# Altium footprint library 1.PcbLib: 34 footprints (part 1 of 3)
Each footprint in its own frame and in the unit in brackets; x right, y up, seen from the top. Pads: shape width x height; smd on the part's side, far side on the other; paste and mask are expansions set on the pad; w line width, h text height; cw(c..) or ccw(c..) is an arc to the next point about the centre after c.
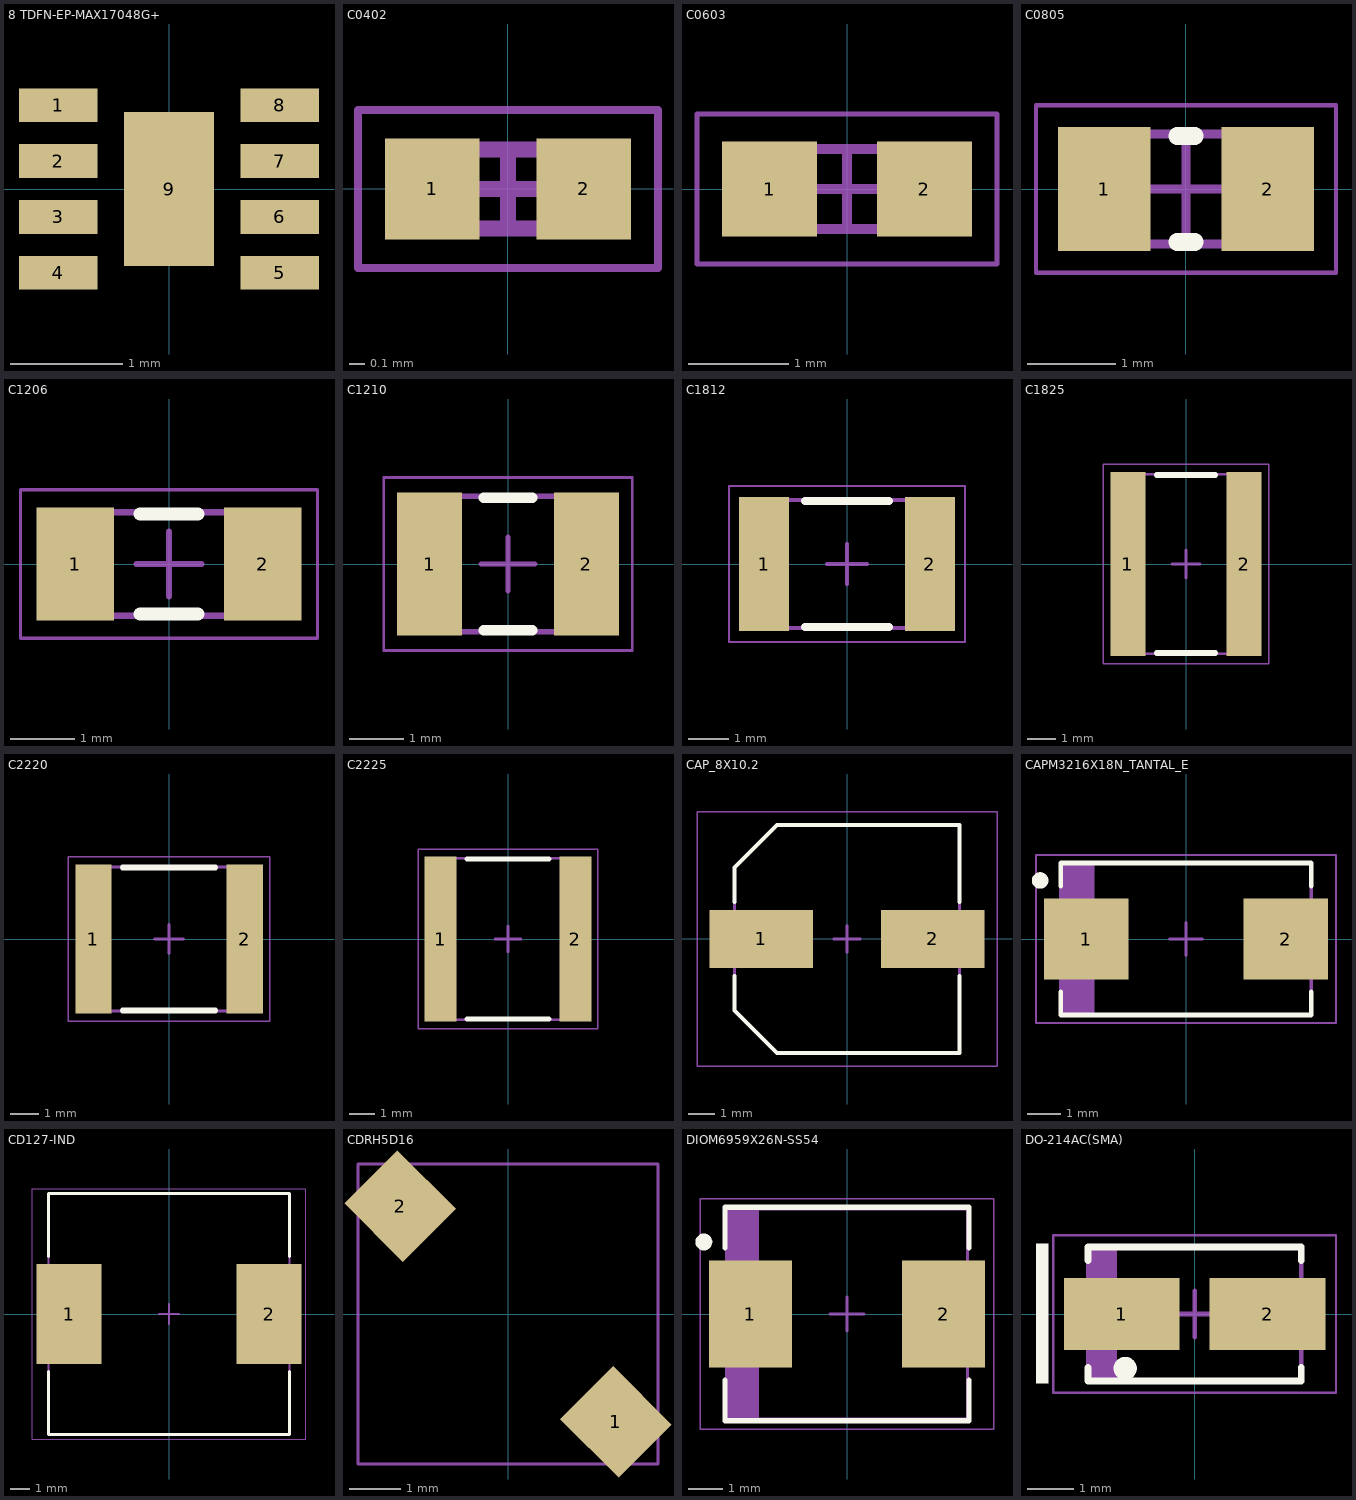
[diagram p0: the footprints below, top view; thin cyan lines are the x and y axes]

## 8 TDFN-EP-MAX17048G+ [mm]
pads (9):
  rect 0.7x0.3 smd: 1(-0.99,0.75) 2(-0.99,0.25) 3(-0.99,-0.25) 4(-0.99,-0.75) 5(0.99,-0.75) 6(0.99,-0.25) 7(0.99,0.25) 8(0.99,0.75)
  rect 0.8x1.38 smd: 9(0,0)

## C0402 [mm] "Chip Capacitor, 2-Leads, Body 1,00x0,50mm, IPC Medium Density"
height 0.55
pads (2):
  rect 0.6x0.64 smd: 1(-0.48,0) 2(0.48,0)
Mechanical 13:
  lines w0.1: -0.5,-0.25 -0.5,0.25 0.5,0.25 0.5,-0.25 -0.5,-0.25
Mechanical 15:
  lines w0.05: -0.95,-0.5 -0.95,0.5 0.95,0.5 0.95,-0.5 -0.95,-0.5
  lines w0.1: -0.25,0 0.25,0 ; 0,-0.25 0,0.25
3D body "C_0402.step": height 0.48, standoff -0.02, extent -0.5,-0.25 0.5,0.25

## C0603 [mm] "Chip Capacitor, 2-Leads, Body 1,60x0,80mm, IPC Medium Density"
height 0.9
pads (2):
  rect 0.95x0.95 smd: 1(-0.775,0) 2(0.775,0)
Mechanical 13:
  lines w0.1: -0.8,-0.4 -0.8,0.4 0.8,0.4 0.8,-0.4 -0.8,-0.4
Mechanical 15:
  lines w0.05: -1.5,-0.75 -1.5,0.75 1.5,0.75 1.5,-0.75 -1.5,-0.75
  lines w0.1: -0.4,0 0.4,0 ; 0,-0.4 0,0.4
3D body "C_0603.step": height 0.8, standoff 0, extent -0.8,-0.4 0.8,0.4

## C0805 [mm] "Chip Capacitor, 2-Leads, Body 2,00x1,25mm, IPC Medium Density"
height 1.3
pads (2):
  rect 1.05x1.4 smd: 1(-0.925,0) 2(0.925,0)
Top Overlay:
  lines w0.2: -0.1,-0.6 0.1,-0.6 ; -0.1,0.6 0.1,0.6
Mechanical 13:
  lines w0.1: -1,-0.625 1,-0.625 1,0.625 -1,0.625 -1,-0.625
Mechanical 15:
  lines w0.05: -1.7,-0.95 1.7,-0.95 1.7,0.95 -1.7,0.95 -1.7,-0.95
  lines w0.1: -0.5,0 0.5,0 ; 0,-0.5 0,0.5
3D body "C_0805.step": height 0.6, standoff 0, extent -1,-0.625 1,0.625

## C1206 [mm] "Chip Capacitor, 2-Leads, Body 3,20x1,60mm, IPC Medium Density"
height 1.5
pads (2):
  rect 1.2x1.75 smd: 1(-1.45,0) 2(1.45,0)
Top Overlay:
  lines w0.2: -0.45,-0.775 0.45,-0.775 ; -0.45,0.775 0.45,0.775
Mechanical 13:
  lines w0.1: -1.6,-0.8 1.6,-0.8 1.6,0.8 -1.6,0.8 -1.6,-0.8
Mechanical 15:
  lines w0.05: -2.3,-1.15 2.3,-1.15 2.3,1.15 -2.3,1.15 -2.3,-1.15
  lines w0.1: -0.5,0 0.5,0 ; 0,-0.5 0,0.5
3D body "C_1206.step": height 0.79, standoff 0.01, extent -1.6,-0.8 1.6,0.8

## C1210 [mm] "Chip Capacitor, 2-Leads, Body 3,20x2,50mm, IPC Medium Density"
height 1.7
pads (2):
  rect 1.2x2.65 smd: 1(-1.45,0) 2(1.45,0)
Top Overlay:
  lines w0.2: -0.45,-1.225 0.45,-1.225 ; -0.45,1.225 0.45,1.225
Mechanical 13:
  lines w0.1: -1.6,-1.25 -1.6,1.25 1.6,1.25 1.6,-1.25 -1.6,-1.25
Mechanical 15:
  lines w0.05: -2.3,-1.6 -2.3,1.6 2.3,1.6 2.3,-1.6 -2.3,-1.6
  lines w0.1: -0.5,0 0.5,0 ; 0,-0.5 0,0.5
3D body "C_1210.step": height 0.77, standoff -0.01, extent -1.6,-1.25 1.6,1.25

## C1812 [mm] "Chip Capacitor, 2-Leads, Body 4,50x3,20mm, IPC Medium Density"
height 1.7
pads (2):
  rect 1.25x3.35 smd: 1(-2.075,0) 2(2.075,0)
Top Overlay:
  lines w0.2: -1.05,-1.575 1.05,-1.575 ; -1.05,1.575 1.05,1.575
Mechanical 13:
  lines w0.1: -2.25,-1.6 2.25,-1.6 2.25,1.6 -2.25,1.6 -2.25,-1.6
Mechanical 15:
  lines w0.05: -2.95,-1.95 2.95,-1.95 2.95,1.95 -2.95,1.95 -2.95,-1.95
  lines w0.1: -0.5,0 0.5,0 ; 0,-0.5 0,0.5
3D body "C_1812.step": height 1, standoff 0, extent -2.25,-1.6 2.25,1.6

## C1825 [mm] "Chip Capacitor, 2-Leads, Body 4,50x6,40mm, IPC Medium Density"
height 1.7
pads (2):
  rect 1.25x6.55 smd: 1(-2.075,0) 2(2.075,0)
Top Overlay:
  lines w0.2: -1.05,-3.175 1.05,-3.175 ; -1.05,3.175 1.05,3.175
Mechanical 13:
  lines w0.1: -2.25,-3.2 -2.25,3.2 2.25,3.2 2.25,-3.2 -2.25,-3.2
Mechanical 15:
  lines w0.05: -2.95,-3.55 -2.95,3.55 2.95,3.55 2.95,-3.55 -2.95,-3.55
  lines w0.1: -0.5,0 0.5,0 ; 0,-0.5 0,0.5
3D body "C_1825.step": height 1.17, standoff 0.02, extent -2.25,-3.2 2.25,3.2

## C2220 [mm] "Chip Capacitor, 2-Leads, Body 5,60x5,00mm, IPC Medium Density"
height 1.7
pads (2):
  rect 1.25x5.15 smd: 1(-2.625,0) 2(2.625,0)
Top Overlay:
  lines w0.2: -1.6,-2.475 1.6,-2.475 ; -1.6,2.475 1.6,2.475
Mechanical 13:
  lines w0.1: -2.8,-2.5 -2.8,2.5 2.8,2.5 2.8,-2.5 -2.8,-2.5
Mechanical 15:
  lines w0.05: -3.5,-2.85 -3.5,2.85 3.5,2.85 3.5,-2.85 -3.5,-2.85
  lines w0.1: -0.5,0 0.5,0 ; 0,-0.5 0,0.5
3D body "C_2220.step": height 1, standoff 0, extent -2.8,-2.5 2.8,2.5

## C2225 [mm] "Chip Capacitor, 2-Leads, Body 5,60x6,30mm, IPC Medium Density"
height 2
pads (2):
  rect 1.25x6.45 smd: 1(-2.625,0) 2(2.625,0)
Top Overlay:
  lines w0.2: -1.6,-3.125 1.6,-3.125 ; -1.6,3.125 1.6,3.125
Mechanical 13:
  lines w0.1: -2.8,-3.15 -2.8,3.15 2.8,3.15 2.8,-3.15 -2.8,-3.15
Mechanical 15:
  lines w0.05: -3.5,-3.5 -3.5,3.5 3.5,3.5 3.5,-3.5 -3.5,-3.5
  lines w0.1: -0.5,0 0.5,0 ; 0,-0.5 0,0.5
3D body: height 2, standoff 0, extent -2.8,-3.15 -2.25,3.15
3D body: height 2, standoff 0, extent 2.25,-3.15 2.8,3.15
3D body: height 2, standoff 0, extent -2.25,-3.15 2.25,3.15

## CAP_8X10.2 [mm] "Aluminum Electrolytic Capacitor, Body 8,25x8,30x10,70mm, IPC Medium Density"
height 10.7
pads (2):
  rect 3.85x2.15 smd: 1(-3.2,0) 2(3.2,0)
Top Overlay:
  lines w0.15: -4.2,-1.375 -4.2,-2.663 -2.613,-4.25 4.2,-4.25 4.2,-1.375 ; -4.2,1.375 -4.2,2.662 -2.613,4.25 4.2,4.25 4.2,1.375
Mechanical 13:
  lines w0.1: -4.2,-2.663 -4.2,2.662 -2.613,4.25 4.2,4.25 4.2,-4.25 -2.613,-4.25 -4.2,-2.663
Mechanical 15:
  lines w0.05: -5.6,-4.75 5.6,-4.75 5.6,4.75 -5.6,4.75 -5.6,-4.75
  lines w0.1: -0.5,0 0.5,0 ; 0,-0.5 0,0.5
3D body "CAP_8X10.2.step": height 10.7, standoff 0, extent -4.3,-4.25 4.3,4.25

## CAPM3216X18N_TANTAL_E [mm]
height 4.3
pads (2):
  rect 2.55x2.45 smd: 1(-3.025,0) 2(3.025,0)
Top Overlay:
  circle w0.25: c-4.425,1.775 r0.125
  lines w0.15: -3.8,-1.6 -3.8,-2.3 3.8,-2.3 3.8,-1.6 ; -3.8,1.6 -3.8,2.3 3.8,2.3 3.8,1.6
Mechanical 13:
  rectangle: -3.8,-2.3 -2.778,2.3
  lines w0.1: -3.8,-2.3 3.8,-2.3 3.8,2.3 -3.8,2.3 -3.8,-2.3
Mechanical 15:
  lines w0.05: -4.55,-2.55 4.55,-2.55 4.55,2.55 -4.55,2.55 -4.55,-2.55
  lines w0.1: -0.5,0 0.5,0 ; 0,-0.5 0,0.5
3D body "CAPM3216X18N_TANTAL_E.step": height 4.3, standoff 0, extent -4.02,-2.3 4.02,2.3

## CD127-IND [mm] "Precision Wire Wound Inductor, 2-Leads, Body 12,00x12,00mm, IPC Medium Density"
height 8
pads (2):
  rect 3.3x5.1 smd: 1(-5.1,0) 2(5.1,0)
Top Overlay:
  lines w0.15: -6.15,-2.925 -6.15,-6.15 6.15,-6.15 6.15,-2.925 ; -6.15,2.925 -6.15,6.15 6.15,6.15 6.15,2.925
Mechanical 13:
  lines w0.1: -6.15,-6.15 -6.15,6.15 6.15,6.15 6.15,-6.15 -6.15,-6.15
Mechanical 15:
  lines w0.05: -6.975,-6.4 -6.975,6.4 6.975,6.4 6.975,-6.4 -6.975,-6.4
  lines w0.1: -0.5,0 0.5,0 ; 0,-0.5 0,0.5
3D body "CDRH127_470M.step": height 7.47, standoff 0.06, extent -6,-6 6,6

## CDRH5D16 [mm]
pads (2):
  rect 1.45x1.6 smd rot 45: 1(2.086,-2.086) 2(-2.086,2.086)
Mechanical 15:
  lines w0.05: -2.9,-2.9 2.9,-2.9 2.9,2.9 -2.9,2.9 -2.9,-2.9
3D body: height 1.8, standoff 0.1, extent -2.9,-2.9 2.9,2.9

## DIOM6959X26N-SS54 [mm] "Molded Diode, 2-Leads, Body 6,86x5,91mm, IPC Medium Density"
height 2.62
pads (2):
  rect 2.45x3.15 smd: 1(-2.85,0) 2(2.85,0)
Top Overlay:
  circle w0.25: c-4.225,2.125 r0.125
  lines w0.15: -3.6,-1.95 -3.6,-3.15 3.6,-3.15 3.6,-1.95 ; -3.6,1.95 -3.6,3.15 3.6,3.15 3.6,1.95
Mechanical 13:
  rectangle: -3.555,-3.11 -2.599,3.11
  lines w0.1: -3.555,-3.11 3.555,-3.11 3.555,3.11 -3.555,3.11 -3.555,-3.11
Mechanical 15:
  lines w0.05: -4.325,-3.4 4.325,-3.4 4.325,3.4 -4.325,3.4 -4.325,-3.4
  lines w0.1: -0.5,0 0.5,0 ; 0,-0.5 0,0.5
3D body "DIOM6959X26N.step": height 2.62, standoff 0, extent -3.775,-3.11 3.775,3.11

## DO-214AC(SMA) [mm]
height 2.44
pads (2):
  rect 2.5x1.55 smd: 1(-1.575,0) 2(1.575,0)
Top Overlay:
  circle w0.25: c-1.5,-1.175 r0.125
  rectangle: -3.425,-1.5 -3.15,1.525
  lines w0.15: -2.3,-1.15 -2.3,-1.45 2.3,-1.45 2.3,-1.15 ; -2.3,1.15 -2.3,1.45 2.3,1.45 2.3,1.15
Mechanical 13:
  rectangle: -2.3,-1.445 -1.681,1.445
  lines w0.1: -2.3,-1.445 -2.3,1.445 2.3,1.445 2.3,-1.445 -2.3,-1.445
Mechanical 15:
  lines w0.05: -3.05,-1.7 -3.05,1.7 3.05,1.7 3.05,-1.7 -3.05,-1.7
  lines w0.1: -0.5,0 0.5,0 ; 0,-0.5 0,0.5
3D body "DO-214AC(SMA) .step": height 2.44, standoff 0, extent -2.52,-1.445 2.52,1.445